# Altium schematic symbol library CN HDR 6POS 3.96MM.Schlib: 1 symbol
Pins are listed as number, name and electrical type; pins without a type are passive.

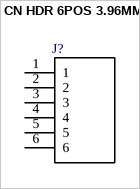
[diagram p0: symbol CN HDR 6POS 3.96MM]

## CN HDR 6POS 3.96MM
designator J?, comment CONN HEADER VERT 6POS 3.96MM  (value not drawn)
pins: 1, 2, 3, 4, 5, 6